# Altium footprint library 0878321420.PcbLib: 1 footprints
Each footprint in its own frame and in the unit in brackets; x right, y up, seen from the top. Pads: shape width x height; smd on the part's side, far side on the other; paste and mask are expansions set on the pad; w line width, h text height; cw(c..) or ccw(c..) is an arc to the next point about the centre after c.
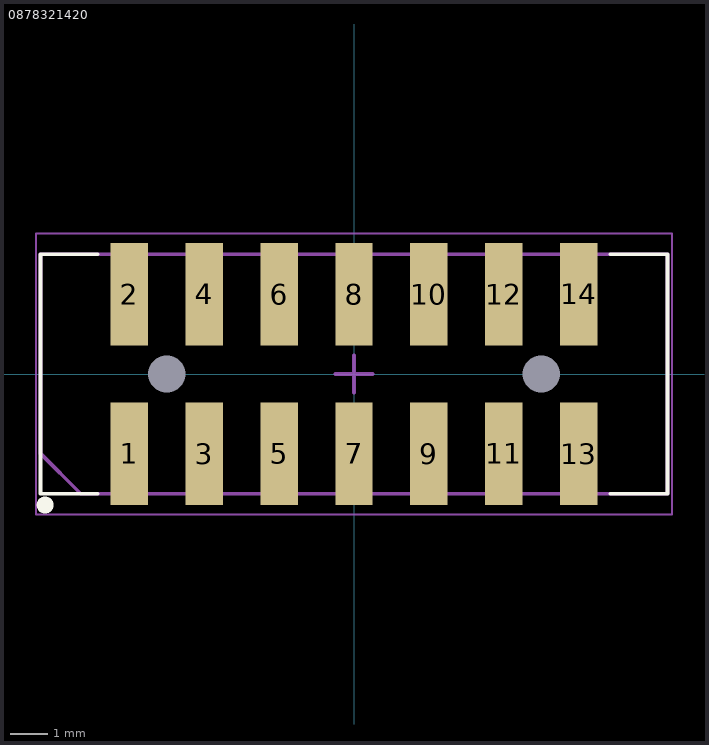
[diagram p0: the footprint, top view; thin cyan lines are the x and y axes]

## 0878321420 [mm]
pads (16):
  rect 1x2.75 smd: 1(-6,-2.13) 2(-6,2.13) 3(-4,-2.13) 4(-4,2.13) 5(-2,-2.13) 6(-2,2.13) 7(0,-2.13) 8(0,2.13) 9(2,-2.13) 10(2,2.13) 11(4,-2.13) 12(4,2.13) 13(6,-2.13) 14(6,2.13)
  round 0 hole 1 unplated: 15(-5,0) 16(5,0)
Top Overlay:
  circle w0.254: c-8.25,-3.5 r0.1
  lines w0.1: -6.85,-3.2 -8.375,-3.2 -8.375,3.2 -6.85,3.2 ; 6.85,-3.2 8.375,-3.2 8.375,3.2 6.85,3.2
Mechanical 1:
  lines w0.1: -8.375,-2.125 -7.3,-3.2 8.375,-3.2 8.375,3.2 -8.375,3.2 -8.375,-2.125
  text ".Designator" at -3.304,-0.293 h0.65
Mechanical 2:
  lines w0.05: -8.5,-3.75 8.5,-3.75 8.5,3.75 -8.5,3.75 -8.5,-3.75
  lines w0.1: -0.5,0 0.5,0 ; 0,-0.5 0,0.5
3D body "878321420.stp": height 7.6, standoff -1, extent -8.325,-3.15 8.325,3.15